# Altium schematic symbol library NHD-C12864LZ-FSW-FBW-3V3.SchLib: 1 symbol
Pins are listed as number, name and electrical type; pins without a type are passive.

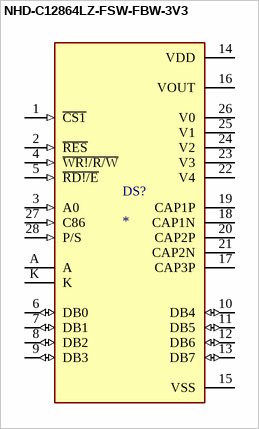
[diagram p0: symbol NHD-C12864LZ-FSW-FBW-3V3]

## NHD-C12864LZ-FSW-FBW-3V3
designator DS?
Graphic LCD Display Module Transflective Black (White - Inverted) FSTN - Film Super-Twisted Nematic Parallel/Serial 128 x 64; MP: NHD-C12864LZ-FSW-FBW-3V3; MF: Newhaven Display; Price: None; SnapEDA_Link: https://www.snapeda.com/parts/NHD-C12864LZ-FSW-FBW-3V3/Newhaven%20Display%20Intl/view-part/299301/?ref=snap; Purchase-URL: https://pricing.snapeda.com/search/part/NHD-C12864LZ-FSW-FBW-3V3/?ref=eda; Value: *; Availability: Warning; Package: None; Check_prices: https://www.snapeda.com/parts/NHD-C12864LZ-FSW-FBW-3V3/Newhaven%20Display%20Intl/view-part/299301/?ref=eda
footprint LCD_NHD-C12864LZ-FSW-FBW-3V3
pins: 1 ~{CS1} (in), 2 ~{RES} (in), 3 A0 (in), 4 ~{WR!/R/W} (in), 5 ~{RD!/E} (in), 6 DB0 (io), 7 DB1 (io), 8 DB2 (io), 9 DB3 (io), 10 DB4 (io), 11 DB5 (io), 12 DB6 (io), 13 DB7 (io), 14 VDD (power), 15 VSS (power), 16 VOUT (power), 17 CAP3P (power), 18 CAP1N (power), 19 CAP1P (power), 20 CAP2P (power), 21 CAP2N (power), 22 V4 (power), 23 V3 (power), 24 V2 (power), 25 V1 (power), 26 V0 (power), 27 C86 (in), 28 P/S (in), A, K